# Altium integrated library Linear Technology Power Management PMIC Multifunction.IntLib: 360 symbols (part 16 of 42)
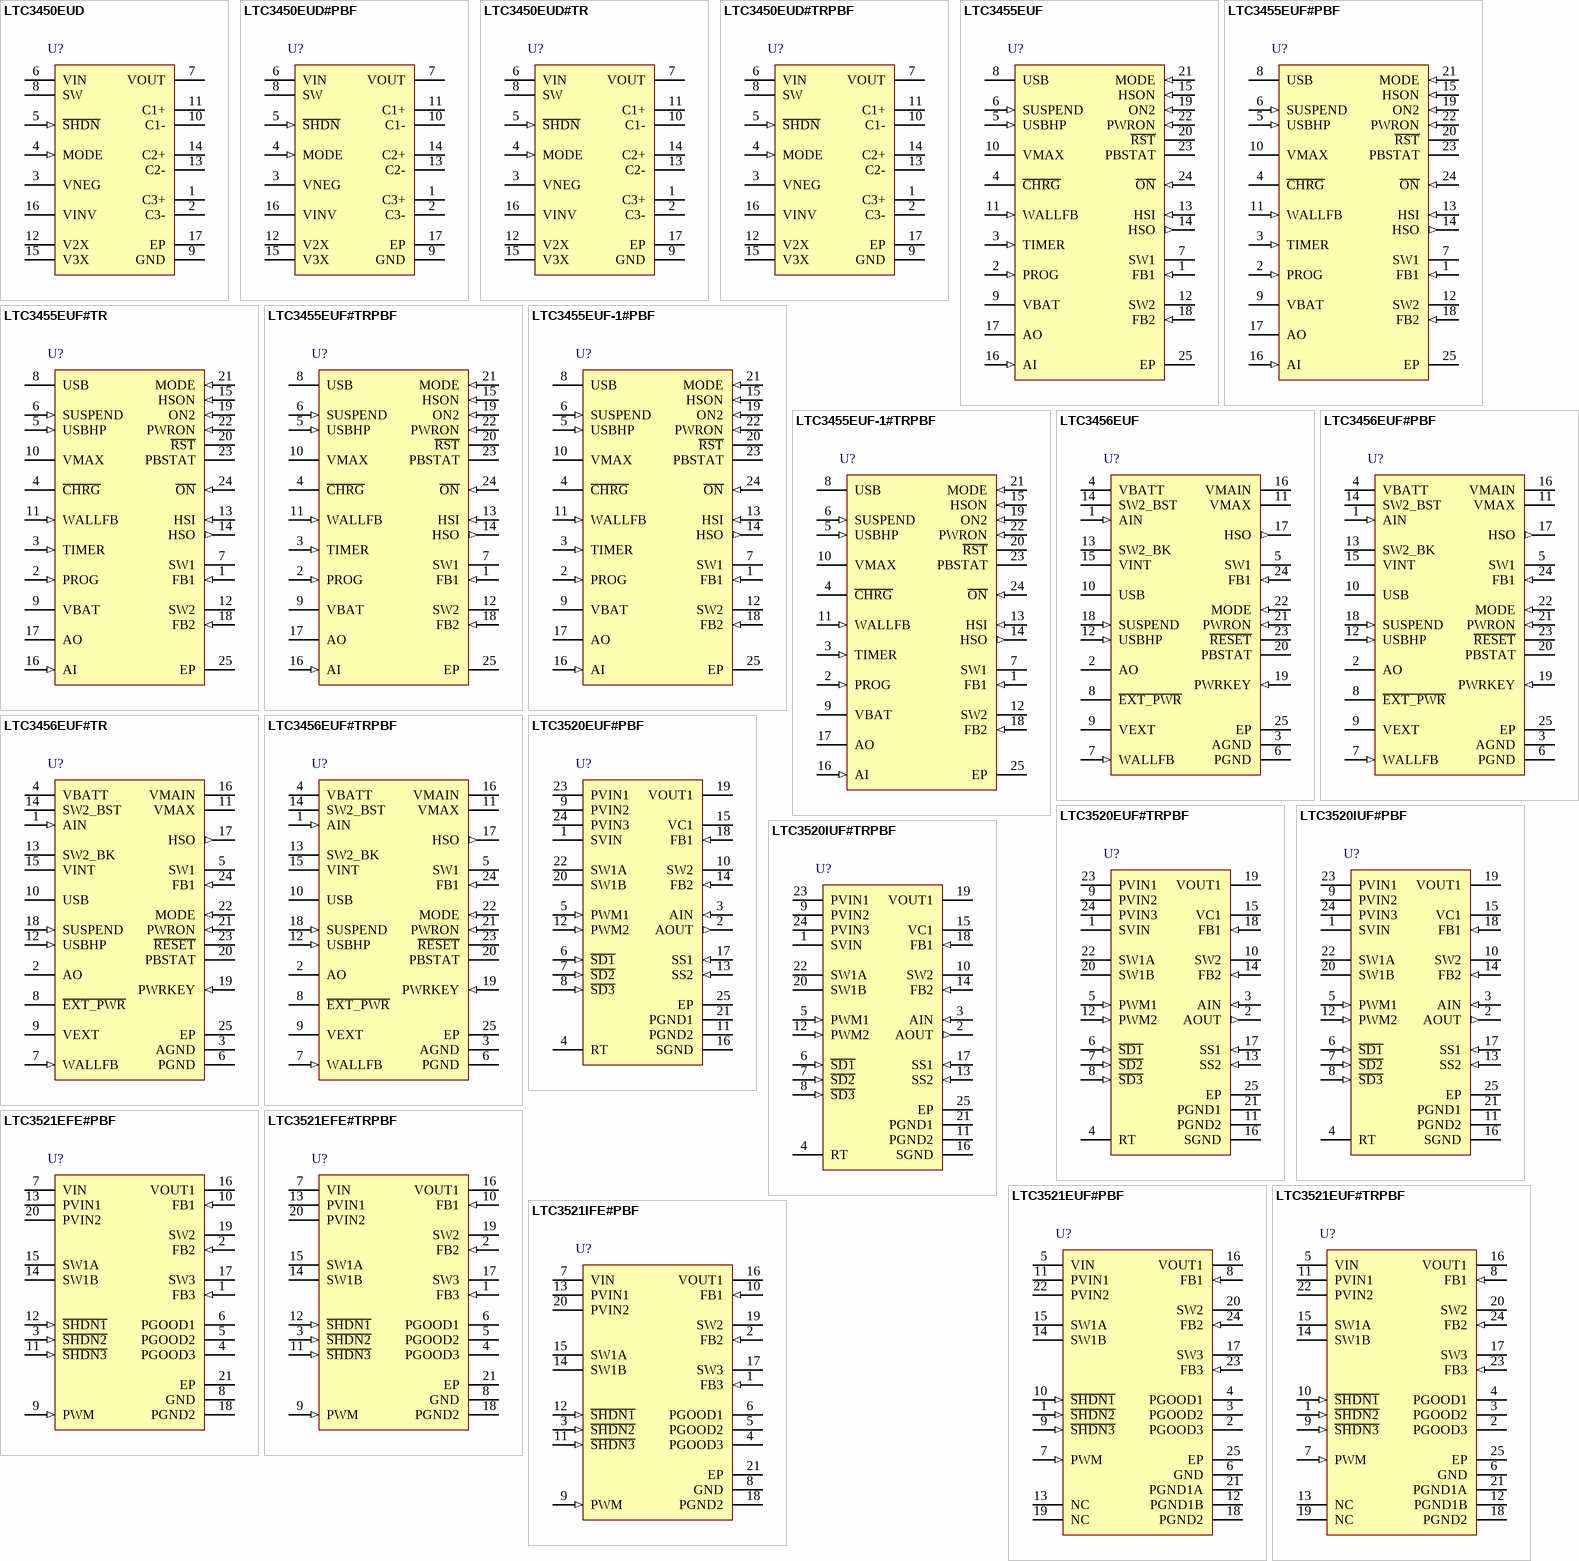
[diagram p33: symbols LTC3450EUD to LTC3521IFE#PBF]

## LTC3521EUF#PBF
designator U?
Wide Vin, 1 A Buck-Boost DC/DC and Dual 600 mA Buck DC/DC Converter, 1.8 to 5.5 V Vin, 24-pin QFN (UF-24), -40 to 125 degC, Pb-Free; Manufacturer: Linear Technology; PartNumber: LTC3521EUF#PBF; Number of Outputs: 3; Vin Max(V): 5.5; Vin Min(V): 1.8; DatasheetVersion: Rev. A; PackageVersion: Rev. B, 02/2012; PackageReference: UF24; PackageDescription: 24-Pin Plastic QFN, Body 4 x 4 mm, Pitch 0.5 mm; Supplier 1: Digi-Key; Supplier Part Number 1: LTC3521EUF#PBF-ND; Supplier 2: Newark; Supplier Part Number 2: 13T8329; RoHS: TRUE; Mounting Technology: Surface Mount; Code_JEDEC: MO-220; ComponentLink1Description: Manufacturer URL; ComponentLink1URL: http://www.linear.com/; ComponentLink2Description: Datasheet; ComponentLink2URL: http://cds.linear.com/docs/en/datasheet/3521fa.pdf; ComponentLink3Description: Package Specification; ComponentLink3URL: http://cds.linear.com/docs/en/packaging/%28UF24%29%20QFN%2005-08-1697%20Rev%20B.pdf
footprint LT-UF-24_N (QFN, 24-Leads, Body 4.1x4.1mm, Pitch 0.5mm, Thermal Pad 2.45x2.45mm, IPC Medium Density)
footprint LT-UF-24_L (QFN, 24-Leads, Body 4.1x4.1mm, Pitch 0.5mm, Thermal Pad 2.45x2.45mm, IPC High Density)
footprint LT-UF-24_M (QFN, 24-Leads, Body 4.1x4.1mm, Pitch 0.5mm, Thermal Pad 2.45x2.45mm, IPC Low Density)
pins: 1 ~{SHDN2} (in) "Forcing this pin above 1.4V enables the buck converter output at SW2. Forcing this pin below 0.4V disables the buck converter. This pin cannot be left floating.", 2 PGOOD3 (oc) "This pin is an open-drain output which pulls low under any of the following conditions: VOUT3 buck output voltage is out of regulation, the part is in overtemperature shutdown, the part is in undervoltage lockout, or the (See Datasheet)", 3 PGOOD2 (oc) "This pin is an open-drain output which pulls low under any of the following conditions: VOUT2 buck output voltage is out of regulation, the part is in overtemperature shutdown, the part is in undervoltage lockout, or the (See Datasheet)", 4 PGOOD1 (oc) "This pin is an open-drain output which pulls low under any of the following conditions: VOUT1 buck-boost output voltage is out of regulation, the part is in overtemperature shutdown, the part is in undervoltage lockout, the (See Datasheet)", 5 VIN (power) "Low Current Power Supply Connection Used to Power the Internal Circuitry of the LTC3521. This pin should be bypassed by a 4.7uF, or larger, ceramic capacitor. The bypass capacitor should be placed as close to the pin as (See Datasheet)", 6 GND (power) "Small Signal Ground. This pin is used as a ground reference for the internal circuitry of the LTC3521.", 7 PWM (in) "Logic Input Used to Choose Between Burst Mode Operation and PWM Mode for All Three Converters. This pin cannot be left floating.", 8 FB1 (in) "Feedback Voltage for the Buck-Boost Converter Derived from a Resistor Divider on the Buck-Boost Output Voltage. The buck-boost output voltage is given by the following equation, where R1 is a resistor between FB1 and ground, (See Datasheet)", 9 ~{SHDN3} (in) "Forcing this pin above 1.4V enables the buck converter output at SW3. Forcing this pin below 0.4V disables the buck converter. This pin cannot be left floating.", 10 ~{SHDN1} (in) "Forcing this pin above 1.4V enables the buck-boost converter. Forcing this pin below 0.4V disables the buck-boost converter. This pin cannot be left floating.", 11 PVIN1 (power) "High current power supply connection used to supply switch A of the buck-boost converter. This pin should be bypassed by a 4.7uF, or larger, ceramic cap. The bypass capacitor should be placed as close to the pin as possible (See Datasheet)", 12 PGND1B (power) "High Current Ground Connection for the Buck-Boost Switch C. The PCB trace connecting this pin to ground should be made as short and wide as possible.", 13 NC "No Internal Connection.", 14 SW1B "Buck-Boost Switch Node. This pin must be connected to one side of the buck-boost inductor.", 15 SW1A "Buck-Boost Switch Node. This pin must be connected to one side of the buck-boost inductor", 16 VOUT1 (power) "Buck-Boost Output Voltage Node. This pin should be connected to a low ESR ceramic capacitor. The capacitor should be placed as close to the IC as possible and should have a short return to ground.", 17 SW3 (power) "Buck converter Switch Node. This pin must be connected to the opposite side of the inductor connected to VOUT3.", 18 PGND2 (power) "High Current Ground Connection for Both Buck Converters. The PCB trace connecting this pin to ground should be made as short and wide as possible.", 19 NC "No Internal Connection.", 20 SW2 (power) "Buck Converter Switch Node. This pin must be connected to the opposite side of the inductor connected to VOUT2.", 21 PGND1A (power) "High Current Ground Connection for the Buck-Boost Switch B. The PCB trace connecting this pin to ground should be made as short and wide as possible.", 22 PVIN2 (power) "High Current Power Supply Connection Used to Supply the Buck Converter Power Switches. This pin should be bypassed by a 10uF or larger ceramic cap. The bypass capacitor should be placed as close to the pin as possible and (See Datasheet)", 23 FB3 (in) "Feedback Voltage for the Buck Converter Derived from a Resistor Divider Connected to the Buck VOUT3 Output Voltage. The buck output voltage is given by the following equation, where R1 is a resistor between FB3 and ground, (See Datasheet)", 24 FB2 (in) "Feedback Voltage for the Buck Converter Derived from a Resistor Divider Connected to the Buck VOUT2 Output Voltage. The buck output voltage is given by the following equation, where R1 is a resistor between FB2 and ground, (See Datasheet)", 25 EP (power) "High Current Ground Connection for the Buck-Boost Switch B. The PCB trace connecting this pin to ground should be made as short and wide as possible."

## LTC3521EUF#TRPBF
designator U?
Wide Vin, 1 A Buck-Boost DC/DC and Dual 600 mA Buck DC/DC Converter, 1.8 to 5.5 V Vin, 24-pin QFN (UF-24), -40 to 125 degC, Pb-Free, Tape and Reel; Manufacturer: Linear Technology; PartNumber: LTC3521EUF#TRPBF; Number of Outputs: 3; Vin Max(V): 5.5; Vin Min(V): 1.8; DatasheetVersion: Rev. A; PackageVersion: Rev. B, 02/2012; PackageReference: UF24; PackageDescription: 24-Pin Plastic QFN, Body 4 x 4 mm, Pitch 0.5 mm; Supplier 1: Digi-Key; Supplier Part Number 1: LTC3521EUF#TRPBF-ND; Supplier 2: Newark; Supplier Part Number 2: 13T8330; Packing: Tape and Reel; RoHS: TRUE; Mounting Technology: Surface Mount; Code_JEDEC: MO-220; ComponentLink1Description: Manufacturer URL; ComponentLink1URL: http://www.linear.com/; ComponentLink2Description: Datasheet; ComponentLink2URL: http://cds.linear.com/docs/en/datasheet/3521fa.pdf; ComponentLink3Description: Package Specification; ComponentLink3URL: http://cds.linear.com/docs/en/packaging/%28UF24%29%20QFN%2005-08-1697%20Rev%20B.pdf
footprint LT-UF-24_N (QFN, 24-Leads, Body 4.1x4.1mm, Pitch 0.5mm, Thermal Pad 2.45x2.45mm, IPC Medium Density)
footprint LT-UF-24_L (QFN, 24-Leads, Body 4.1x4.1mm, Pitch 0.5mm, Thermal Pad 2.45x2.45mm, IPC High Density)
footprint LT-UF-24_M (QFN, 24-Leads, Body 4.1x4.1mm, Pitch 0.5mm, Thermal Pad 2.45x2.45mm, IPC Low Density)
pins: 1 ~{SHDN2} (in) "Forcing this pin above 1.4V enables the buck converter output at SW2. Forcing this pin below 0.4V disables the buck converter. This pin cannot be left floating.", 2 PGOOD3 (oc) "This pin is an open-drain output which pulls low under any of the following conditions: VOUT3 buck output voltage is out of regulation, the part is in overtemperature shutdown, the part is in undervoltage lockout, or the (See Datasheet)", 3 PGOOD2 (oc) "This pin is an open-drain output which pulls low under any of the following conditions: VOUT2 buck output voltage is out of regulation, the part is in overtemperature shutdown, the part is in undervoltage lockout, or the (See Datasheet)", 4 PGOOD1 (oc) "This pin is an open-drain output which pulls low under any of the following conditions: VOUT1 buck-boost output voltage is out of regulation, the part is in overtemperature shutdown, the part is in undervoltage lockout, the (See Datasheet)", 5 VIN (power) "Low Current Power Supply Connection Used to Power the Internal Circuitry of the LTC3521. This pin should be bypassed by a 4.7uF, or larger, ceramic capacitor. The bypass capacitor should be placed as close to the pin as (See Datasheet)", 6 GND (power) "Small Signal Ground. This pin is used as a ground reference for the internal circuitry of the LTC3521.", 7 PWM (in) "Logic Input Used to Choose Between Burst Mode Operation and PWM Mode for All Three Converters. This pin cannot be left floating.", 8 FB1 (in) "Feedback Voltage for the Buck-Boost Converter Derived from a Resistor Divider on the Buck-Boost Output Voltage. The buck-boost output voltage is given by the following equation, where R1 is a resistor between FB1 and ground, (See Datasheet)", 9 ~{SHDN3} (in) "Forcing this pin above 1.4V enables the buck converter output at SW3. Forcing this pin below 0.4V disables the buck converter. This pin cannot be left floating.", 10 ~{SHDN1} (in) "Forcing this pin above 1.4V enables the buck-boost converter. Forcing this pin below 0.4V disables the buck-boost converter. This pin cannot be left floating.", 11 PVIN1 (power) "High current power supply connection used to supply switch A of the buck-boost converter. This pin should be bypassed by a 4.7uF, or larger, ceramic cap. The bypass capacitor should be placed as close to the pin as possible (See Datasheet)", 12 PGND1B (power) "High Current Ground Connection for the Buck-Boost Switch C. The PCB trace connecting this pin to ground should be made as short and wide as possible.", 13 NC "No Internal Connection.", 14 SW1B "Buck-Boost Switch Node. This pin must be connected to one side of the buck-boost inductor.", 15 SW1A "Buck-Boost Switch Node. This pin must be connected to one side of the buck-boost inductor", 16 VOUT1 (power) "Buck-Boost Output Voltage Node. This pin should be connected to a low ESR ceramic capacitor. The capacitor should be placed as close to the IC as possible and should have a short return to ground.", 17 SW3 (power) "Buck converter Switch Node. This pin must be connected to the opposite side of the inductor connected to VOUT3.", 18 PGND2 (power) "High Current Ground Connection for Both Buck Converters. The PCB trace connecting this pin to ground should be made as short and wide as possible.", 19 NC "No Internal Connection.", 20 SW2 (power) "Buck Converter Switch Node. This pin must be connected to the opposite side of the inductor connected to VOUT2.", 21 PGND1A (power) "High Current Ground Connection for the Buck-Boost Switch B. The PCB trace connecting this pin to ground should be made as short and wide as possible.", 22 PVIN2 (power) "High Current Power Supply Connection Used to Supply the Buck Converter Power Switches. This pin should be bypassed by a 10uF or larger ceramic cap. The bypass capacitor should be placed as close to the pin as possible and (See Datasheet)", 23 FB3 (in) "Feedback Voltage for the Buck Converter Derived from a Resistor Divider Connected to the Buck VOUT3 Output Voltage. The buck output voltage is given by the following equation, where R1 is a resistor between FB3 and ground, (See Datasheet)", 24 FB2 (in) "Feedback Voltage for the Buck Converter Derived from a Resistor Divider Connected to the Buck VOUT2 Output Voltage. The buck output voltage is given by the following equation, where R1 is a resistor between FB2 and ground, (See Datasheet)", 25 EP (power) "High Current Ground Connection for the Buck-Boost Switch B. The PCB trace connecting this pin to ground should be made as short and wide as possible."

## LTC3521IFE#PBF
designator U?
Wide Vin, 1 A Buck-Boost DC/DC and Dual 600 mA Buck DC/DC Converter, 1.8 to 5.5 V Vin, 20-pin SOP (FE-20-EPV-CB), -40 to 125 degC, Pb-Free; Manufacturer: Linear Technology; PartNumber: LTC3521IFE#PBF; Number of Outputs: 3; Vin Max(V): 5.5; Vin Min(V): 1.8; DatasheetVersion: Rev. A; PackageVersion: Rev. I, 05/2011; PackageReference: FE-20; PackageDescription: 20-Pin Plastic TSSOP, Body 6.5 x 4.4 mm, Pitch 0.65 mm; Supplier 1: Digi-Key; Supplier Part Number 1: LTC3521IFE#PBF-ND; Supplier 2: Farnell; Supplier Part Number 2: 1868073; Supplier 3: Newark; Supplier Part Number 3: 13T8331; RoHS: TRUE; Mounting Technology: Surface Mount; ComponentLink1Description: Manufacturer URL; ComponentLink1URL: http://www.linear.com/; ComponentLink2Description: Datasheet; ComponentLink2URL: http://cds.linear.com/docs/en/datasheet/3521fa.pdf; ComponentLink3Description: Package Specification; ComponentLink3URL: http://cds.linear.com/docs/en/packaging/05081663__J_FE20(CB).pdf
footprint LT-FE-20-EPV-CB_N (SOP, 20-Leads, Body 6.6x4.5mm, Pitch 0.65mm, Thermal Pad 3.86x2.74mm, IPC Medium Density)
footprint LT-FE-20-EPV-CB_L (SOP, 20-Leads, Body 6.6x4.5mm, Pitch 0.65mm, Thermal Pad 3.86x2.74mm, IPC High Density)
footprint LT-FE-20-EPV-CB_M (SOP, 20-Leads, Body 6.6x4.5mm, Pitch 0.65mm, Thermal Pad 3.86x2.74mm, IPC Low Density)
pins: 1 FB3 (in) "Feedback Voltage for the Buck Converter Derived from a Resistor Divider Connected to the Buck VOUT3 Output Voltage. The buck output voltage is given by the following equation, where R1 is a resistor between FB3 and ground, (See Datasheet)", 2 FB2 (in) "Feedback Voltage for the Buck Converter Derived from a Resistor Divider Connected to the Buck VOUT2 Output Voltage. The buck output voltage is given by the following equation, where R1 is a resistor between FB2 and ground, (See Datasheet)", 3 ~{SHDN2} (in) "Forcing this pin above 1.4V enables the buck converter output at SW2. Forcing this pin below 0.4V disables the buck converter. This pin cannot be left floating.", 4 PGOOD3 (oc) "This pin is an open-drain output which pulls low under any of the following conditions: VOUT3 buck output voltage is out of regulation, the part is in overtemperature shutdown, the part is in undervoltage lockout, or the (See Datasheet)", 5 PGOOD2 (oc) "This pin is an open-drain output which pulls low under any of the following conditions: VOUT2 buck output voltage is out of regulation, the part is in overtemperature shutdown, the part is in undervoltage lockout, or the (See Datasheet)", 6 PGOOD1 (oc) "This pin is an open-drain output which pulls low under any of the following conditions: VOUT1 buck-boost output voltage is out of regulation, the part is in overtemperature shutdown, the part is in undervoltage lockout, the (See Datasheet)", 7 VIN (power) "Low Current Power Supply Connection Used to Power the Internal Circuitry of the LTC3521. This pin should be bypassed by a 4.7uF, or larger, ceramic capacitor. The bypass capacitor should be placed as close to the pin as (See Datasheet)", 8 GND (power) "Small Signal Ground. This pin is used as a ground reference for the internal circuitry of the LTC3521.", 9 PWM (in) "Logic Input Used to Choose Between Burst Mode Operation and PWM Mode for All Three Converters. This pin cannot be left floating.", 10 FB1 (in) "Feedback Voltage for the Buck-Boost Converter Derived from a Resistor Divider on the Buck- Boost Output Voltage. The buck-boost output voltage is given by the following equation, where R1 is a resistor between FB1 and (See Datasheet)", 11 ~{SHDN3} (in) "Forcing this pin above 1.4V enables the buck converter output at SW3. Forcing this pin below 0.4V disables the buck converter. This pin cannot be left floating.", 12 ~{SHDN1} (in) "Forcing this pin above 1.4V enables the buck-boost converter. Forcing this pin below 0.4V disables the buck-boost converter. This pin cannot be left floating.", 13 PVIN1 (power) "High current power supply connection used to supply switch A of the buck-boost converter. This pin should be bypassed by a 4.7uF, or larger, ceramic cap. The bypass capacitor should be placed as close to the pin as possible (See Datasheet)", 14 SW1B "Buck-Boost Switch Node. This pin must be connected to one side of the buck-boost inductor.", 15 SW1A "Buck-Boost Switch Node. This pin must be connected to one side of the buck-boost inductor.", 16 VOUT1 (power) "Buck-Boost Output Voltage Node. This pin should be connected to a low ESR ceramic capacitor. The capacitor should be placed as close to the IC as possible and should have a short return to ground.", 17 SW3 (power) "Buck converter Switch Node. This pin must be connected to the opposite side of the inductor connected to VOUT3.", 18 PGND2 (power) "High Current Ground Connection for Both Buck Converters. The PCB trace connecting this pin to ground should be made as short and wide as possible.", 19 SW2 (power) "Buck Converter Switch Node. This pin must be connected to the opposite side of the inductor connected to VOUT2.", 20 PVIN2 (power) "High Current Power Supply Connection Used to Supply the Buck Converter Power Switches. This pin should be bypassed by a 10uF or larger ceramic cap. The bypass capacitor should be placed as close to the pin as possible and (See Datasheet)", 21 EP (power) "High Current Ground Connection for the Buck- Boost Switch B. The PCB trace connecting this pin to ground should be made as short and wide as possible."

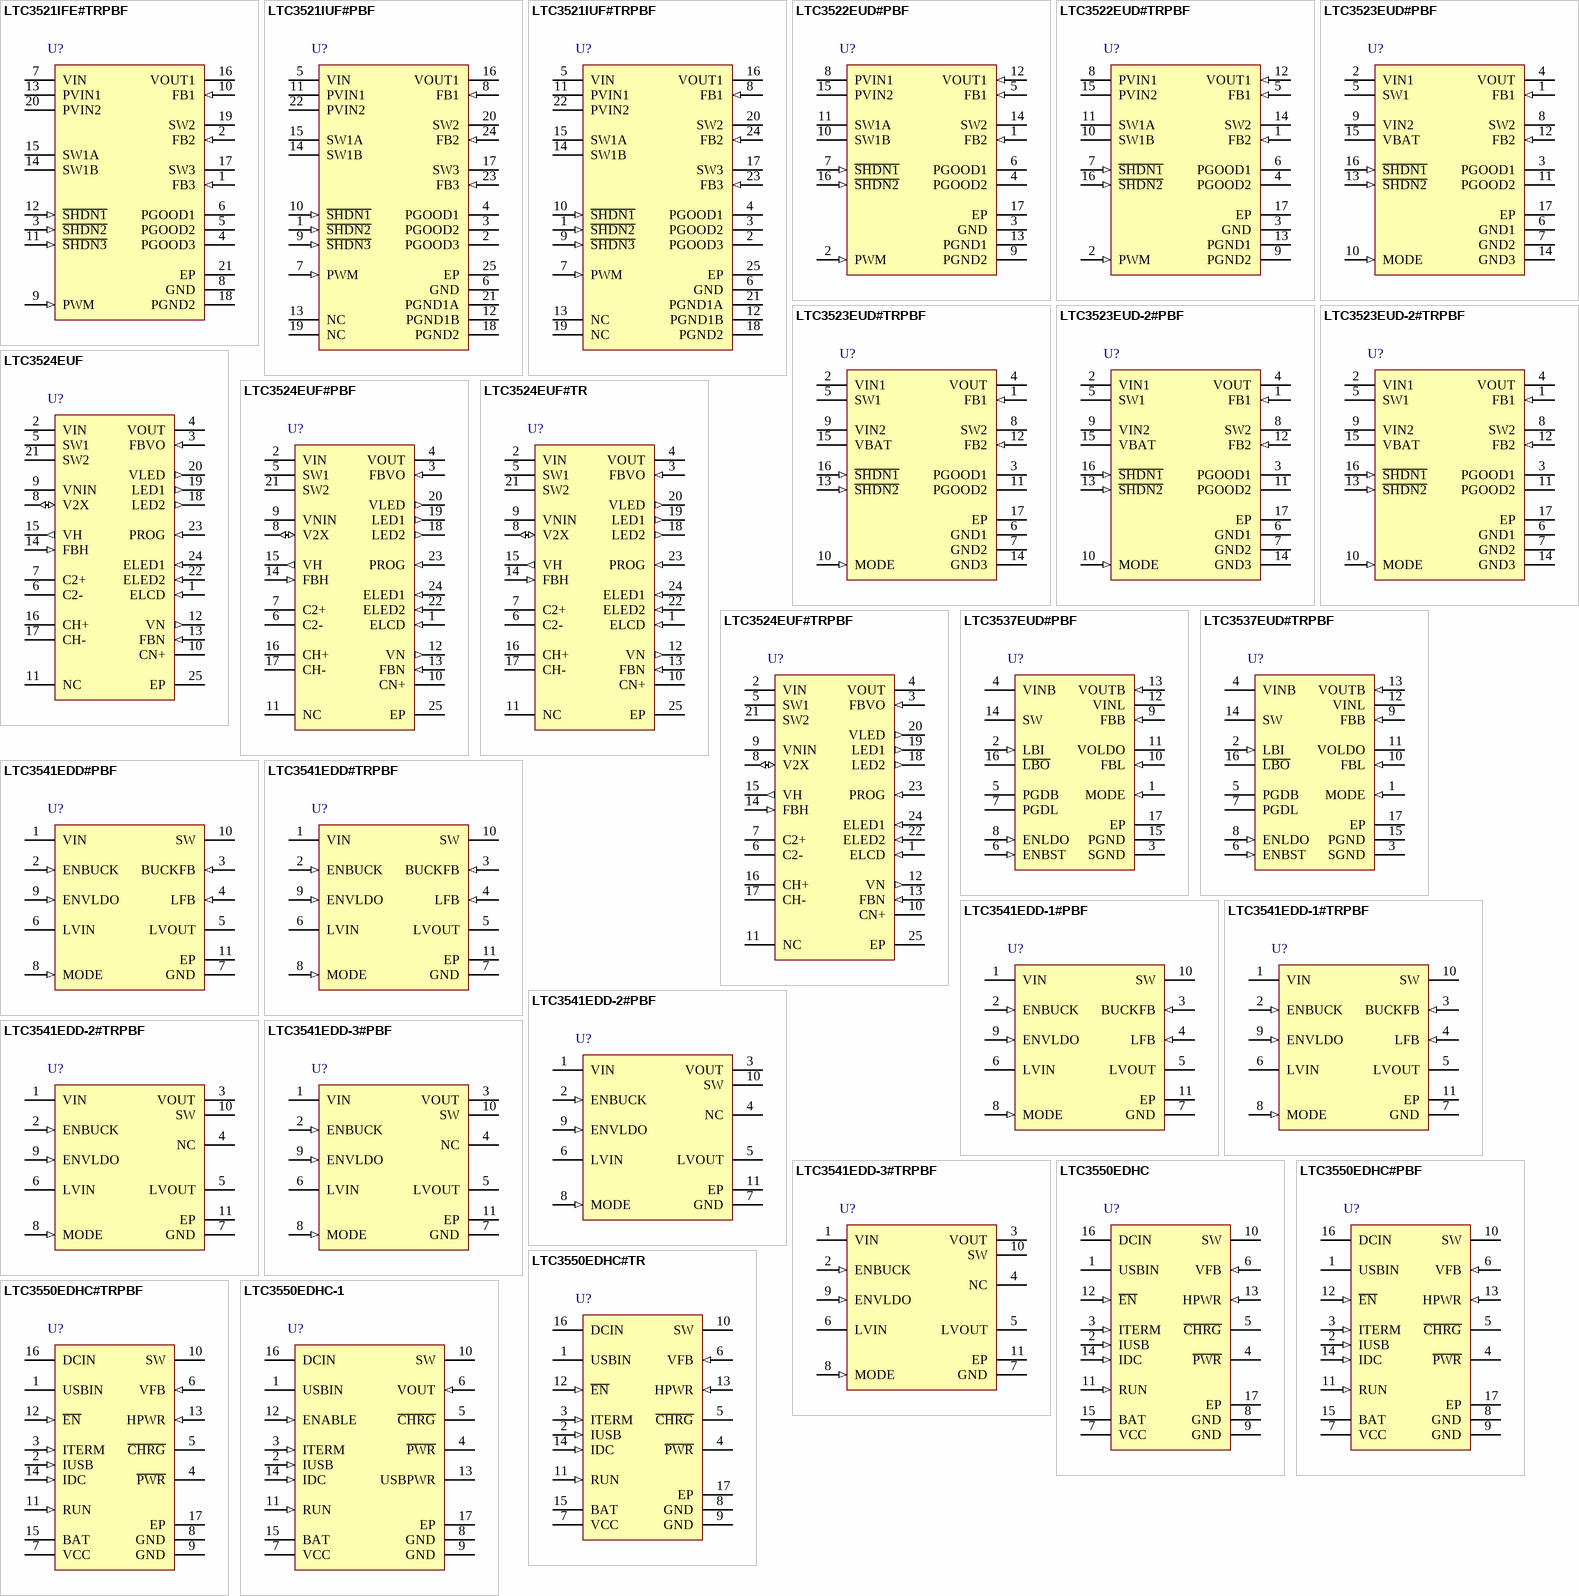
[diagram p7: symbols LTC3521IFE#TRPBF to LTC3550EDHC-1]

## LTC3521IFE#TRPBF
designator U?
Wide Vin, 1 A Buck-Boost DC/DC and Dual 600 mA Buck DC/DC Converter, 1.8 to 5.5 V Vin, 20-pin SOP (FE-20-EPV-CB), -40 to 125 degC, Pb-Free, Tape and Reel; Manufacturer: Linear Technology; PartNumber: LTC3521IFE#TRPBF; Number of Outputs: 3; Vin Max(V): 5.5; Vin Min(V): 1.8; DatasheetVersion: Rev. A; PackageVersion: Rev. I, 05/2011; PackageReference: FE-20; PackageDescription: 20-Pin Plastic TSSOP, Body 6.5 x 4.4 mm, Pitch 0.65 mm; Supplier 1: Digi-Key; Supplier Part Number 1: LTC3521IFE#TRPBF-ND; Packing: Tape and Reel; RoHS: TRUE; Mounting Technology: Surface Mount; ComponentLink1Description: Manufacturer URL; ComponentLink1URL: http://www.linear.com/; ComponentLink2Description: Datasheet; ComponentLink2URL: http://cds.linear.com/docs/en/datasheet/3521fa.pdf; ComponentLink3Description: Package Specification; ComponentLink3URL: http://cds.linear.com/docs/en/packaging/05081663__J_FE20(CB).pdf
footprint LT-FE-20-EPV-CB_N (SOP, 20-Leads, Body 6.6x4.5mm, Pitch 0.65mm, Thermal Pad 3.86x2.74mm, IPC Medium Density)
footprint LT-FE-20-EPV-CB_L (SOP, 20-Leads, Body 6.6x4.5mm, Pitch 0.65mm, Thermal Pad 3.86x2.74mm, IPC High Density)
footprint LT-FE-20-EPV-CB_M (SOP, 20-Leads, Body 6.6x4.5mm, Pitch 0.65mm, Thermal Pad 3.86x2.74mm, IPC Low Density)
pins: 1 FB3 (in) "Feedback Voltage for the Buck Converter Derived from a Resistor Divider Connected to the Buck VOUT3 Output Voltage. The buck output voltage is given by the following equation, where R1 is a resistor between FB3 and ground, (See Datasheet)", 2 FB2 (in) "Feedback Voltage for the Buck Converter Derived from a Resistor Divider Connected to the Buck VOUT2 Output Voltage. The buck output voltage is given by the following equation, where R1 is a resistor between FB2 and ground, (See Datasheet)", 3 ~{SHDN2} (in) "Forcing this pin above 1.4V enables the buck converter output at SW2. Forcing this pin below 0.4V disables the buck converter. This pin cannot be left floating.", 4 PGOOD3 (oc) "This pin is an open-drain output which pulls low under any of the following conditions: VOUT3 buck output voltage is out of regulation, the part is in overtemperature shutdown, the part is in undervoltage lockout, or the (See Datasheet)", 5 PGOOD2 (oc) "This pin is an open-drain output which pulls low under any of the following conditions: VOUT2 buck output voltage is out of regulation, the part is in overtemperature shutdown, the part is in undervoltage lockout, or the (See Datasheet)", 6 PGOOD1 (oc) "This pin is an open-drain output which pulls low under any of the following conditions: VOUT1 buck-boost output voltage is out of regulation, the part is in overtemperature shutdown, the part is in undervoltage lockout, the (See Datasheet)", 7 VIN (power) "Low Current Power Supply Connection Used to Power the Internal Circuitry of the LTC3521. This pin should be bypassed by a 4.7uF, or larger, ceramic capacitor. The bypass capacitor should be placed as close to the pin as (See Datasheet)", 8 GND (power) "Small Signal Ground. This pin is used as a ground reference for the internal circuitry of the LTC3521.", 9 PWM (in) "Logic Input Used to Choose Between Burst Mode Operation and PWM Mode for All Three Converters. This pin cannot be left floating.", 10 FB1 (in) "Feedback Voltage for the Buck-Boost Converter Derived from a Resistor Divider on the Buck- Boost Output Voltage. The buck-boost output voltage is given by the following equation, where R1 is a resistor between FB1 and (See Datasheet)", 11 ~{SHDN3} (in) "Forcing this pin above 1.4V enables the buck converter output at SW3. Forcing this pin below 0.4V disables the buck converter. This pin cannot be left floating.", 12 ~{SHDN1} (in) "Forcing this pin above 1.4V enables the buck-boost converter. Forcing this pin below 0.4V disables the buck-boost converter. This pin cannot be left floating.", 13 PVIN1 (power) "High current power supply connection used to supply switch A of the buck-boost converter. This pin should be bypassed by a 4.7uF, or larger, ceramic cap. The bypass capacitor should be placed as close to the pin as possible (See Datasheet)", 14 SW1B "Buck-Boost Switch Node. This pin must be connected to one side of the buck-boost inductor.", 15 SW1A "Buck-Boost Switch Node. This pin must be connected to one side of the buck-boost inductor.", 16 VOUT1 (power) "Buck-Boost Output Voltage Node. This pin should be connected to a low ESR ceramic capacitor. The capacitor should be placed as close to the IC as possible and should have a short return to ground.", 17 SW3 (power) "Buck converter Switch Node. This pin must be connected to the opposite side of the inductor connected to VOUT3.", 18 PGND2 (power) "High Current Ground Connection for Both Buck Converters. The PCB trace connecting this pin to ground should be made as short and wide as possible.", 19 SW2 (power) "Buck Converter Switch Node. This pin must be connected to the opposite side of the inductor connected to VOUT2.", 20 PVIN2 (power) "High Current Power Supply Connection Used to Supply the Buck Converter Power Switches. This pin should be bypassed by a 10uF or larger ceramic cap. The bypass capacitor should be placed as close to the pin as possible and (See Datasheet)", 21 EP (power) "High Current Ground Connection for the Buck- Boost Switch B. The PCB trace connecting this pin to ground should be made as short and wide as possible."

## LTC3521IUF#PBF
designator U?
Wide Vin, 1 A Buck-Boost DC/DC and Dual 600 mA Buck DC/DC Converter, 1.8 to 5.5 V Vin, 24-pin QFN (UF-24), -40 to 125 degC, Pb-Free; Manufacturer: Linear Technology; PartNumber: LTC3521IUF#PBF; Number of Outputs: 3; Vin Max(V): 5.5; Vin Min(V): 1.8; DatasheetVersion: Rev. A; PackageVersion: Rev. B, 02/2012; PackageReference: UF24; PackageDescription: 24-Pin Plastic QFN, Body 4 x 4 mm, Pitch 0.5 mm; Supplier 1: Digi-Key; Supplier Part Number 1: LTC3521IUF#PBF-ND; Supplier 2: Newark; Supplier Part Number 2: 13T8333; RoHS: TRUE; Mounting Technology: Surface Mount; Code_JEDEC: MO-220; ComponentLink1Description: Manufacturer URL; ComponentLink1URL: http://www.linear.com/; ComponentLink2Description: Datasheet; ComponentLink2URL: http://cds.linear.com/docs/en/datasheet/3521fa.pdf; ComponentLink3Description: Package Specification; ComponentLink3URL: http://cds.linear.com/docs/en/packaging/%28UF24%29%20QFN%2005-08-1697%20Rev%20B.pdf
footprint LT-UF-24_N (QFN, 24-Leads, Body 4.1x4.1mm, Pitch 0.5mm, Thermal Pad 2.45x2.45mm, IPC Medium Density)
footprint LT-UF-24_L (QFN, 24-Leads, Body 4.1x4.1mm, Pitch 0.5mm, Thermal Pad 2.45x2.45mm, IPC High Density)
footprint LT-UF-24_M (QFN, 24-Leads, Body 4.1x4.1mm, Pitch 0.5mm, Thermal Pad 2.45x2.45mm, IPC Low Density)
pins: 1 ~{SHDN2} (in) "Forcing this pin above 1.4V enables the buck converter output at SW2. Forcing this pin below 0.4V disables the buck converter. This pin cannot be left floating.", 2 PGOOD3 (oc) "This pin is an open-drain output which pulls low under any of the following conditions: VOUT3 buck output voltage is out of regulation, the part is in overtemperature shutdown, the part is in undervoltage lockout, or the (See Datasheet)", 3 PGOOD2 (oc) "This pin is an open-drain output which pulls low under any of the following conditions: VOUT2 buck output voltage is out of regulation, the part is in overtemperature shutdown, the part is in undervoltage lockout, or the (See Datasheet)", 4 PGOOD1 (oc) "This pin is an open-drain output which pulls low under any of the following conditions: VOUT1 buck-boost output voltage is out of regulation, the part is in overtemperature shutdown, the part is in undervoltage lockout, the (See Datasheet)", 5 VIN (power) "Low Current Power Supply Connection Used to Power the Internal Circuitry of the LTC3521. This pin should be bypassed by a 4.7uF, or larger, ceramic capacitor. The bypass capacitor should be placed as close to the pin as (See Datasheet)", 6 GND (power) "Small Signal Ground. This pin is used as a ground reference for the internal circuitry of the LTC3521.", 7 PWM (in) "Logic Input Used to Choose Between Burst Mode Operation and PWM Mode for All Three Converters. This pin cannot be left floating.", 8 FB1 (in) "Feedback Voltage for the Buck-Boost Converter Derived from a Resistor Divider on the Buck-Boost Output Voltage. The buck-boost output voltage is given by the following equation, where R1 is a resistor between FB1 and ground, (See Datasheet)", 9 ~{SHDN3} (in) "Forcing this pin above 1.4V enables the buck converter output at SW3. Forcing this pin below 0.4V disables the buck converter. This pin cannot be left floating.", 10 ~{SHDN1} (in) "Forcing this pin above 1.4V enables the buck-boost converter. Forcing this pin below 0.4V disables the buck-boost converter. This pin cannot be left floating.", 11 PVIN1 (power) "High current power supply connection used to supply switch A of the buck-boost converter. This pin should be bypassed by a 4.7uF, or larger, ceramic cap. The bypass capacitor should be placed as close to the pin as possible (See Datasheet)", 12 PGND1B (power) "High Current Ground Connection for the Buck-Boost Switch C. The PCB trace connecting this pin to ground should be made as short and wide as possible.", 13 NC "No Internal Connection.", 14 SW1B "Buck-Boost Switch Node. This pin must be connected to one side of the buck-boost inductor.", 15 SW1A "Buck-Boost Switch Node. This pin must be connected to one side of the buck-boost inductor", 16 VOUT1 (power) "Buck-Boost Output Voltage Node. This pin should be connected to a low ESR ceramic capacitor. The capacitor should be placed as close to the IC as possible and should have a short return to ground.", 17 SW3 (power) "Buck converter Switch Node. This pin must be connected to the opposite side of the inductor connected to VOUT3.", 18 PGND2 (power) "High Current Ground Connection for Both Buck Converters. The PCB trace connecting this pin to ground should be made as short and wide as possible.", 19 NC "No Internal Connection.", 20 SW2 (power) "Buck Converter Switch Node. This pin must be connected to the opposite side of the inductor connected to VOUT2.", 21 PGND1A (power) "High Current Ground Connection for the Buck-Boost Switch B. The PCB trace connecting this pin to ground should be made as short and wide as possible.", 22 PVIN2 (power) "High Current Power Supply Connection Used to Supply the Buck Converter Power Switches. This pin should be bypassed by a 10uF or larger ceramic cap. The bypass capacitor should be placed as close to the pin as possible and (See Datasheet)", 23 FB3 (in) "Feedback Voltage for the Buck Converter Derived from a Resistor Divider Connected to the Buck VOUT3 Output Voltage. The buck output voltage is given by the following equation, where R1 is a resistor between FB3 and ground, (See Datasheet)", 24 FB2 (in) "Feedback Voltage for the Buck Converter Derived from a Resistor Divider Connected to the Buck VOUT2 Output Voltage. The buck output voltage is given by the following equation, where R1 is a resistor between FB2 and ground, (See Datasheet)", 25 EP (power) "High Current Ground Connection for the Buck-Boost Switch B. The PCB trace connecting this pin to ground should be made as short and wide as possible."

## LTC3521IUF#TRPBF
designator U?
Wide Vin, 1 A Buck-Boost DC/DC and Dual 600 mA Buck DC/DC Converter, 1.8 to 5.5 V Vin, 24-pin QFN (UF-24), -40 to 125 degC, Pb-Free, Tape and Reel; Manufacturer: Linear Technology; PartNumber: LTC3521IUF#TRPBF; Number of Outputs: 3; Vin Max(V): 5.5; Vin Min(V): 1.8; DatasheetVersion: Rev. A; PackageVersion: Rev. B, 02/2012; PackageReference: UF24; PackageDescription: 24-Pin Plastic QFN, Body 4 x 4 mm, Pitch 0.5 mm; Supplier 1: Digi-Key; Supplier Part Number 1: LTC3521IUF#TRPBF-ND; Packing: Tape and Reel; RoHS: TRUE; Mounting Technology: Surface Mount; Code_JEDEC: MO-220; ComponentLink1Description: Manufacturer URL; ComponentLink1URL: http://www.linear.com/; ComponentLink2Description: Datasheet; ComponentLink2URL: http://cds.linear.com/docs/en/datasheet/3521fa.pdf; ComponentLink3Description: Package Specification; ComponentLink3URL: http://cds.linear.com/docs/en/packaging/%28UF24%29%20QFN%2005-08-1697%20Rev%20B.pdf
footprint LT-UF-24_N (QFN, 24-Leads, Body 4.1x4.1mm, Pitch 0.5mm, Thermal Pad 2.45x2.45mm, IPC Medium Density)
footprint LT-UF-24_L (QFN, 24-Leads, Body 4.1x4.1mm, Pitch 0.5mm, Thermal Pad 2.45x2.45mm, IPC High Density)
footprint LT-UF-24_M (QFN, 24-Leads, Body 4.1x4.1mm, Pitch 0.5mm, Thermal Pad 2.45x2.45mm, IPC Low Density)
pins: 1 ~{SHDN2} (in) "Forcing this pin above 1.4V enables the buck converter output at SW2. Forcing this pin below 0.4V disables the buck converter. This pin cannot be left floating.", 2 PGOOD3 (oc) "This pin is an open-drain output which pulls low under any of the following conditions: VOUT3 buck output voltage is out of regulation, the part is in overtemperature shutdown, the part is in undervoltage lockout, or the (See Datasheet)", 3 PGOOD2 (oc) "This pin is an open-drain output which pulls low under any of the following conditions: VOUT2 buck output voltage is out of regulation, the part is in overtemperature shutdown, the part is in undervoltage lockout, or the (See Datasheet)", 4 PGOOD1 (oc) "This pin is an open-drain output which pulls low under any of the following conditions: VOUT1 buck-boost output voltage is out of regulation, the part is in overtemperature shutdown, the part is in undervoltage lockout, the (See Datasheet)", 5 VIN (power) "Low Current Power Supply Connection Used to Power the Internal Circuitry of the LTC3521. This pin should be bypassed by a 4.7uF, or larger, ceramic capacitor. The bypass capacitor should be placed as close to the pin as (See Datasheet)", 6 GND (power) "Small Signal Ground. This pin is used as a ground reference for the internal circuitry of the LTC3521.", 7 PWM (in) "Logic Input Used to Choose Between Burst Mode Operation and PWM Mode for All Three Converters. This pin cannot be left floating.", 8 FB1 (in) "Feedback Voltage for the Buck-Boost Converter Derived from a Resistor Divider on the Buck-Boost Output Voltage. The buck-boost output voltage is given by the following equation, where R1 is a resistor between FB1 and ground, (See Datasheet)", 9 ~{SHDN3} (in) "Forcing this pin above 1.4V enables the buck converter output at SW3. Forcing this pin below 0.4V disables the buck converter. This pin cannot be left floating.", 10 ~{SHDN1} (in) "Forcing this pin above 1.4V enables the buck-boost converter. Forcing this pin below 0.4V disables the buck-boost converter. This pin cannot be left floating.", 11 PVIN1 (power) "High current power supply connection used to supply switch A of the buck-boost converter. This pin should be bypassed by a 4.7uF, or larger, ceramic cap. The bypass capacitor should be placed as close to the pin as possible (See Datasheet)", 12 PGND1B (power) "High Current Ground Connection for the Buck-Boost Switch C. The PCB trace connecting this pin to ground should be made as short and wide as possible.", 13 NC "No Internal Connection.", 14 SW1B "Buck-Boost Switch Node. This pin must be connected to one side of the buck-boost inductor.", 15 SW1A "Buck-Boost Switch Node. This pin must be connected to one side of the buck-boost inductor", 16 VOUT1 (power) "Buck-Boost Output Voltage Node. This pin should be connected to a low ESR ceramic capacitor. The capacitor should be placed as close to the IC as possible and should have a short return to ground.", 17 SW3 (power) "Buck converter Switch Node. This pin must be connected to the opposite side of the inductor connected to VOUT3.", 18 PGND2 (power) "High Current Ground Connection for Both Buck Converters. The PCB trace connecting this pin to ground should be made as short and wide as possible.", 19 NC "No Internal Connection.", 20 SW2 (power) "Buck Converter Switch Node. This pin must be connected to the opposite side of the inductor connected to VOUT2.", 21 PGND1A (power) "High Current Ground Connection for the Buck-Boost Switch B. The PCB trace connecting this pin to ground should be made as short and wide as possible.", 22 PVIN2 (power) "High Current Power Supply Connection Used to Supply the Buck Converter Power Switches. This pin should be bypassed by a 10uF or larger ceramic cap. The bypass capacitor should be placed as close to the pin as possible and (See Datasheet)", 23 FB3 (in) "Feedback Voltage for the Buck Converter Derived from a Resistor Divider Connected to the Buck VOUT3 Output Voltage. The buck output voltage is given by the following equation, where R1 is a resistor between FB3 and ground, (See Datasheet)", 24 FB2 (in) "Feedback Voltage for the Buck Converter Derived from a Resistor Divider Connected to the Buck VOUT2 Output Voltage. The buck output voltage is given by the following equation, where R1 is a resistor between FB2 and ground, (See Datasheet)", 25 EP (power) "High Current Ground Connection for the Buck-Boost Switch B. The PCB trace connecting this pin to ground should be made as short and wide as possible."

## LTC3522EUD#PBF
designator U?
Synchronous 400 mA Buck-Boost and 200 mA Buck Converter, 2.4 to 5.5 V Vin, 16-pin QFN (UD-16), -40 to 85 degC, Pb-Free; Manufacturer: Linear Technology; PartNumber: LTC3522EUD#PBF; Number of Outputs: 2; Vin Max(V): 5.5; Vin Min(V): 2.4; DatasheetVersion: Rev. A; PackageVersion: Jun-10; PackageReference: UD-16; PackageDescription: 16-Pin Plastic QFN, Body 3 x 3 mm, Pitch 0.5 mm; Supplier 1: Digi-Key; Supplier Part Number 1: LTC3522EUD#PBF-ND; Supplier 2: Farnell; Supplier Part Number 2: 1715234; Supplier 3: Newark; Supplier Part Number 3: 56M7880; RoHS: TRUE; Mounting Technology: Surface Mount; Code_JEDEC: MO-220; ComponentLink1Description: Manufacturer URL; ComponentLink1URL: http://www.linear.com/; ComponentLink2Description: Datasheet; ComponentLink2URL: http://cds.linear.com/docs/en/datasheet/3522fa.pdf; ComponentLink3Description: Package Specification; ComponentLink3URL: http://cds.linear.com/docs/en/packaging/QFN_16_05-08-1691.pdf
footprint LT-UD-16_N (QFN, 16-Leads, Body 3x3mm, Pitch 0.5mm, Thermal Pad 1.45x1.45mm, IPC Medium Density)
footprint LT-UD-16_L (QFN, 16-Leads, Body 3x3mm, Pitch 0.5mm, Thermal Pad 1.45x1.45mm, IPC High Density)
footprint LT-UD-16_M (QFN, 16-Leads, Body 3x3mm, Pitch 0.5mm, Thermal Pad 1.45x1.45mm, IPC Low Density)
pins: 1 FB2 (in) "Feedback Voltage for the Buck Converter Derived from a Resistor Divider on the Buck Output Voltage. The buck output voltage is given by the following equation where R1 is a resistor between FB2 and ground and R2 is a (See Datasheet)", 2 PWM (in) "Logic Input Used to Choose Between Burst and PWM Mode Operation for Both Converters. This pin cannot be left floating. PWM = Low: Burst Mode operation is enabled on both converters. The buck converter will operate in Burst (See Datasheet)", 3 GND (power) "SmaSmall-Signal Ground Used as a Ground Reference for the Internal Circuitry of the LTC3522.ll-Signal Ground Used as a Ground", 4 PGOOD2 (oc) "This pin is an open-drain output which will only pull low if the buck converter is enabled and one or more of the following conditions occurs: the buck output voltage is out of regulation, the part is in overtemperature (See Datasheet)", 5 FB1 (in) "Feedback Voltage for the Buck-Boost Converter Derived from a Resistor Divider on the Buck-Boost Output Voltage. The buck-boost output voltage is given by the following equation where R1 is a resistor between FB1 and ground (See Datasheet)", 6 PGOOD1 (oc) "This pin is an open-drain output which will only pull low if the buck-boost converter is enabled and one or more of the following conditions occurs: the buck-boost output voltage is out of regulation, the part is in (See Datasheet)", 7 ~{SHDN1} (in) "Buck-Boost Active-Low Shutdown Pin. Forcing this pin above 1.4 V enables the buck-boost converter. Forcing this pin below 0.4 V disables the buck-boost converter. This pin cannot be left floating.", 8 PVIN1 (power) "High Current Power Supply Connection Used to Supply Switch A of the Buck-Boost Converter. This pin should be bypassed by a 4.7 uF or larger ceramic capacitor. The bypass capacitor should be placed as close to the pin as (See Datasheet)", 9 PGND2 (power) "High Current Ground Connection for the Buck-Boost Switch C. The PCB trace connecting this pin to ground should be made as short and wide as possible.", 10 SW1B "Buck-Boost Switch Node That Must be Connected to One Side of the Buck-Boost Inductor", 11 SW1A "Buck-Boost Switch Node That Must be Connected to One Side of the Buck-Boost Inductor", 12 VOUT1 (in) "Buck-Boost Output Voltage Node. This pin should be connected to a low ESR output capacitor. The capacitor should be placed as close to the IC as possible and should have a short return to ground.", 13 PGND1 (power) "High Current Ground Connection for Buck-Boost Switch B and the Buck Converter Synchronous Rectifi er. The PCB trace connecting this pin to ground should be made as short and wide as possible.", 14 SW2 (power) "Buck Converter Switch Node That Must be Connected to the Buck Inductor.", 15 PVIN2 (power) "High Current Power Supply Connection Used to Supply the Buck Converter Power Switch. In addition this pin is the supply pin for the internal circuitry of the LTC3522. This pin should be bypassed by a 4.7 uF or larger ceramic (See Datasheet)", 16 ~{SHDN2} (in) "Buck Active-Low Shutdown Pin. Forcing this pin above 1.4V enables the buck converter. Forcing this pin below 0.4V disables the buck converter. This pin cannot be left floating.", 17 EP (power) "The Exposed Pad must be electrically connected to ground. Pins PGND1, PGND2, GND, and the Exposed Pad must be connected together in the application circuit."

## LTC3522EUD#TRPBF
designator U?
Synchronous 400 mA Buck-Boost and 200 mA Buck Converter, 2.4 to 5.5 V Vin, 16-pin QFN (UD-16), -40 to 85 degC, Pb-Free, Tape and Reel; Manufacturer: Linear Technology; PartNumber: LTC3522EUD#TRPBF; Number of Outputs: 2; Vin Max(V): 5.5; Vin Min(V): 2.4; DatasheetVersion: Rev. A; PackageVersion: Jun-10; PackageReference: UD-16; PackageDescription: 16-Pin Plastic QFN, Body 3 x 3 mm, Pitch 0.5 mm; Supplier 1: Digi-Key; Supplier Part Number 1: LTC3522EUD#TRPBF-ND; Packing: Tape and Reel; RoHS: TRUE; Mounting Technology: Surface Mount; Code_JEDEC: MO-220; ComponentLink1Description: Manufacturer URL; ComponentLink1URL: http://www.linear.com/; ComponentLink2Description: Datasheet; ComponentLink2URL: http://cds.linear.com/docs/en/datasheet/3522fa.pdf; ComponentLink3Description: Package Specification; ComponentLink3URL: http://cds.linear.com/docs/en/packaging/QFN_16_05-08-1691.pdf
footprint LT-UD-16_N (QFN, 16-Leads, Body 3x3mm, Pitch 0.5mm, Thermal Pad 1.45x1.45mm, IPC Medium Density)
footprint LT-UD-16_L (QFN, 16-Leads, Body 3x3mm, Pitch 0.5mm, Thermal Pad 1.45x1.45mm, IPC High Density)
footprint LT-UD-16_M (QFN, 16-Leads, Body 3x3mm, Pitch 0.5mm, Thermal Pad 1.45x1.45mm, IPC Low Density)
pins: 1 FB2 (in) "Feedback Voltage for the Buck Converter Derived from a Resistor Divider on the Buck Output Voltage. The buck output voltage is given by the following equation where R1 is a resistor between FB2 and ground and R2 is a (See Datasheet)", 2 PWM (in) "Logic Input Used to Choose Between Burst and PWM Mode Operation for Both Converters. This pin cannot be left floating. PWM = Low: Burst Mode operation is enabled on both converters. The buck converter will operate in Burst (See Datasheet)", 3 GND (power) "SmaSmall-Signal Ground Used as a Ground Reference for the Internal Circuitry of the LTC3522.ll-Signal Ground Used as a Ground", 4 PGOOD2 (oc) "This pin is an open-drain output which will only pull low if the buck converter is enabled and one or more of the following conditions occurs: the buck output voltage is out of regulation, the part is in overtemperature (See Datasheet)", 5 FB1 (in) "Feedback Voltage for the Buck-Boost Converter Derived from a Resistor Divider on the Buck-Boost Output Voltage. The buck-boost output voltage is given by the following equation where R1 is a resistor between FB1 and ground (See Datasheet)", 6 PGOOD1 (oc) "This pin is an open-drain output which will only pull low if the buck-boost converter is enabled and one or more of the following conditions occurs: the buck-boost output voltage is out of regulation, the part is in (See Datasheet)", 7 ~{SHDN1} (in) "Buck-Boost Active-Low Shutdown Pin. Forcing this pin above 1.4 V enables the buck-boost converter. Forcing this pin below 0.4 V disables the buck-boost converter. This pin cannot be left floating.", 8 PVIN1 (power) "High Current Power Supply Connection Used to Supply Switch A of the Buck-Boost Converter. This pin should be bypassed by a 4.7 uF or larger ceramic capacitor. The bypass capacitor should be placed as close to the pin as (See Datasheet)", 9 PGND2 (power) "High Current Ground Connection for the Buck-Boost Switch C. The PCB trace connecting this pin to ground should be made as short and wide as possible.", 10 SW1B "Buck-Boost Switch Node That Must be Connected to One Side of the Buck-Boost Inductor", 11 SW1A "Buck-Boost Switch Node That Must be Connected to One Side of the Buck-Boost Inductor", 12 VOUT1 (in) "Buck-Boost Output Voltage Node. This pin should be connected to a low ESR output capacitor. The capacitor should be placed as close to the IC as possible and should have a short return to ground.", 13 PGND1 (power) "High Current Ground Connection for Buck-Boost Switch B and the Buck Converter Synchronous Rectifi er. The PCB trace connecting this pin to ground should be made as short and wide as possible.", 14 SW2 (power) "Buck Converter Switch Node That Must be Connected to the Buck Inductor.", 15 PVIN2 (power) "High Current Power Supply Connection Used to Supply the Buck Converter Power Switch. In addition this pin is the supply pin for the internal circuitry of the LTC3522. This pin should be bypassed by a 4.7 uF or larger ceramic (See Datasheet)", 16 ~{SHDN2} (in) "Buck Active-Low Shutdown Pin. Forcing this pin above 1.4V enables the buck converter. Forcing this pin below 0.4V disables the buck converter. This pin cannot be left floating.", 17 EP (power) "The Exposed Pad must be electrically connected to ground. Pins PGND1, PGND2, GND, and the Exposed Pad must be connected together in the application circuit."

## LTC3523EUD#PBF
designator U?
Synchronous 600 mA Step-Up and 400 mA Step-Down DC/DC Converter, 1.6 to 5.5 V Vin, 16-pin QFN (UD-16), -40 to 85 degC, Pb-Free; Manufacturer: Linear Technology; PartNumber: LTC3523EUD#PBF; Number of Outputs: 2; Vin Max(V): 5.5; Vin Min(V): 1.6; DatasheetVersion: Rev. B; PackageVersion: Jun-10; PackageReference: UD-16; PackageDescription: 16-Pin Plastic QFN, Body 3 x 3 mm, Pitch 0.5 mm; Supplier 1: Digi-Key; Supplier Part Number 1: LTC3523EUD#PBF-ND; Supplier 2: Farnell; Supplier Part Number 2: 1609768; Supplier 3: Newark; Supplier Part Number 3: 88M1898; RoHS: TRUE; Mounting Technology: Surface Mount; Code_JEDEC: MO-220; ComponentLink1Description: Manufacturer URL; ComponentLink1URL: http://www.linear.com/; ComponentLink2Description: Datasheet; ComponentLink2URL: http://cds.linear.com/docs/en/datasheet/3523fb.pdf; ComponentLink3Description: Package Specification; ComponentLink3URL: http://cds.linear.com/docs/en/packaging/QFN_16_05-08-1691.pdf
footprint LT-UD-16_N (QFN, 16-Leads, Body 3x3mm, Pitch 0.5mm, Thermal Pad 1.45x1.45mm, IPC Medium Density)
footprint LT-UD-16_L (QFN, 16-Leads, Body 3x3mm, Pitch 0.5mm, Thermal Pad 1.45x1.45mm, IPC High Density)
footprint LT-UD-16_M (QFN, 16-Leads, Body 3x3mm, Pitch 0.5mm, Thermal Pad 1.45x1.45mm, IPC Low Density)
pins: 1 FB1 (in) "Step-Up Converter Feedback Input to the Error Amplifier. Connect resistor divider tap to this pin. The output voltage can be adjusted from 1.8V to 5.25V by: VOUT(STEP-UP) = 1.2V • (1 + R1/R2), See Block Diagram.", 2 VIN1 (power) "Step-Up Converter Power Voltage Input. This pin can be connected to a different supply than VIN2. This pin must be connected to a valid supply voltage.", 3 PGOOD1 (oc) "Step-Up Converter Power Good Comparator Output. This open-drain output is pulled low when VFB1 < -9% of its regulation voltage.", 4 VOUT (power) "Step-Up Converter Output Voltage Sense Input and Drain of the Internal Synchronous Rectifier MOSFET. Driver bias is derived from VOUT. PCB trace length from VOUT to the output fi lter capacitor(s) should be as short and wide (See Datasheet)", 5 SW1 "Step-Up Converter Switch Pin. Connect the inductor between SW1 and VIN1. Keep these PCB trace lengths as short and wide as possible to reduce EMI and voltage overshoot. If the inductor current falls to zero or S\H\D\N\1\ is (See Datasheet)", 6 GND1 (power) "Step-Up Converter Power Ground. Connect this pin to the ground plane.", 7 GND2 (power) "Step-Down Converter Power Ground. Connect this pin to the ground plane.", 8 SW2 (power) "Step-Down Converter Switch Pin. Connect one end of the inductor to SW2. Keep these PCB trace lengths as short and wide as possible to reduce EMI and voltage overshoot.", 9 VIN2 (power) "Step-Down Converter Power Voltage Input. This pin can be connected to a different supply than VIN1. This pin must be connected to a valid supply voltage.", 10 MODE (in) "Step-Up and Step-Down Converter Mode Selection Pin. Do not leave this pin floating.• MODE = Low: PWM mode • MODE = High: Automatic Burst Mode operation", 11 PGOOD2 (oc) "Step-Down Converter Power Good Comparator Output. This open-drain output is pulled low when VFB2 < -9% of its regulation voltage.", 12 FB2 (in) "Step-Down Converter Feedback Input to the Error amplifier. Connect resistor divider tap to this pin. The output voltage can be adjusted from 0.6V to 5.5V by:VOUT(STEP-DOWN) = 0.6V • (1 + R3/R4) See Block Diagram. If larg(See Datasheet)", 13 ~{SHDN2} (in) "Step-Down Converter Logic Controlled Shutdown Input. Do not leave this pin fl oating. • S\H\D\N\2\ = High: Normal free-running operation, 1.2MHz/2.4MHz typical operating frequency. • S\H\D\N\2\ = Low: Shutdown, quiesc(See Datasheet)", 14 GND3 (power) "Analog Ground. The feedback voltage dividers for each converter must be returned to GND3 for best performance.", 15 VBAT (power) "Analog Voltage Input. Connect this pin to the higher of VIN1 or VIN2.", 16 ~{SHDN1} (in) "Step-Up Converter Logic Controlled Shutdown Input. • S\H\D\N\1\ = High: Normal free-running operation, 1.2MHz/2.4MHz typical operating frequency. • S\H\D\N\1\ = Low: Shutdown, quiescent current < 1uA. This pin can(See Datasheet)", 17 EP (power) "Die attach pad must be soldered to PCB ground for electrical contact and optimum thermal performance."